# EAGLE library part 691245510009 (library Wurth_Connectors_WR-TBL Rising Cage Clamp)
WR-TBL Serie 2455 - 5.08 mm Horizontal Cable Entry Rising Cage KIND PROPERTIES Pitch 5.08 mm MATERIAL PROPERTIES Insulator Material PA6/66 Insulator Flammability Rating UL94 V-0 Insulator Color Green Contact Material Copper Alloy Contact Plating Nickel Terminal Screw Plating Zinc Wire Guard Material Copper Alloy GENERAL INFORMATION Operating Temperature -30 up to +120 °C Compliance Lead free / RoHS ELECTRICAL PROPERTIES IR UL 16 A IR VDE 24 A Working Voltage [UL] 300 V (AC) Working Voltage [VDE] 450 V (AC) Withstanding Voltage [UL] 1600 V (AC) Withstanding Voltage [VDE] 2500 V (AC) Contact Resistance 20 mΩ MECHANICAL PROPERTIES Wire Strip Length 6 (mm) Screw M3 CERTIFICATION UL Approval E150931 VDE Approval 40015450 PACKAGING PROPERTIES Packaging Box <https://www.we-online.com/catalog/media/o79304v209%20WR-TBL_6912455100xx_4C.jpg> Details see: https://www.we-online.com/catalog/en/TBL_5_08_2455_HORIZONTAL_ENTRY_W_RISING_CAGE_6912455100XX/ Updated by Ella Wu 2019-11-26 2019(C) Wurth Elektronik
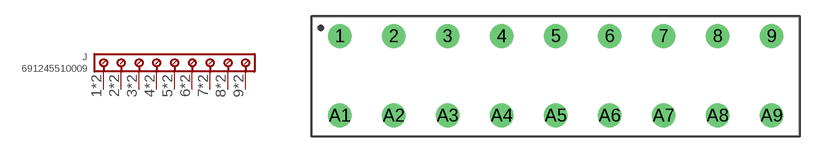
[diagram p86: symbol with the pads of 691245510009; footprint 691245510009]

Designator prefix J

## 691245510009 (IR-UL: 16A; IR-VDE: 24A; PART-NUMBER: 691245510009; PINS: 9; PITCH: 5.08mm; TYPE: Horizontal; WIRE: 12 to 30 (AWG) 0.05 to 3.31 (mm²); WORKING-VOLTAGE-UL: 300V (AC); WORKING-VOLTAGE-VDE: 450V (AC))  [691245510009]
1  1  pas
2  2  pas
3  3  pas
4  4  pas
5  5  pas
6  6  pas
7  7  pas
8  8  pas
9  9  pas
A1  1  pas
A2  2  pas
A3  3  pas
A4  4  pas
A5  5  pas
A6  6  pas
A7  7  pas
A8  8  pas
A9  9  pas

## Footprint 691245510009 (pad centres in mm)
WR-TBL Serie 2455 - 5.08 mm Horizontal Cable Entry Rising Cage Max Height =18mm , Pitch 5.08mm , 9 Pins
drill 1.5: 1 -20.32,3.75; 2 -15.24,3.75; 3 -10.16,3.75; 4 -5.08,3.75; 5 0,3.75; 6 5.08,3.75; 7 10.16,3.75; 8 15.24,3.75; 9 20.32,3.75; A1 -20.32,-3.75; A2 -15.24,-3.75; A3 -10.16,-3.75; A4 -5.08,-3.75; A5 0,-3.75; A6 5.08,-3.75; A7 10.16,-3.75; A8 15.24,-3.75; A9 20.32,-3.75